# Altium schematic symbol library MDL.SchLib: 19 symbols
Pins are listed as number, name and electrical type; pins without a type are passive.

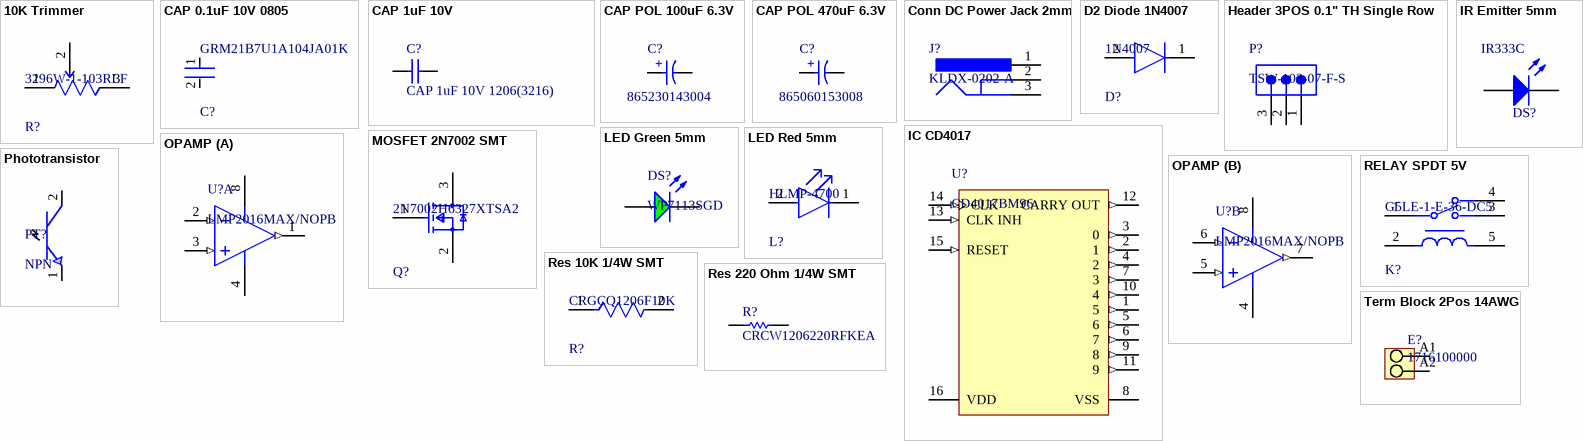
[diagram p0: symbols 10K Trimmer to Term Block 2Pos 14AWG]

## 10K Trimmer
designator R?, comment 3296W-1-103RLF
TRIMMER 10K OHM 0.5W PC PIN TOP; Resistance: 10kR; Temperature Coefficient: 100ppm/°C; Power Rating: 500mW; Tolerance: 10%; Number of Turns: 25; Width: 0.19inch; Termination: Pin; Radiation Hardening: No; Contact Plating: Tin; Composition: Cermet; Length: 9.53mm; Height: 0.395inch; Depth: 4.83mm; REACH SVHC: No SVHC; Weight: 0.03oz; Min Operating Temperature: -55°C; Military Standard: Not; Max Operating Temperature: 125°C; Packaging: Tape and Reel; Package Quantity: 1; Taper: Linear; Max Power Dissipation: 500mW; Mount: Through Hole
footprint FP-3296W-MFG
pins: 1 CCW, 2 WIPER, 3 CW

## CAP 0.1uF 10V 0805
designator C?, comment GRM21B7U1A104JA01K
Chip Multilayer Ceramic Capacitors for General Purpose, 0805, 0.10uF, U2J, -750ppm/°C, 5%, 10V; Capacitance: 100nF; Dielectric: U2J; Voltage Rating (DC): 10V; Thickness: 1.25mm; Width: 1.25mm; Length: 2mm; Case/Package: 0805; Tolerance: 5%
footprint FP-GRM21B-0_1-MFG
footprint FP-GRM21B-0_1-IPC_B
footprint FP-GRM21B-0_1-IPC_C
footprint FP-GRM21B-0_1-IPC_A
pins: 1, 2

## CAP 1uF 10V
designator C?, comment CAP 1uF 10V 1206(3216)
CAP 1uF 10V ±5% 1206 (3216 Metric) Thickness 1.3mm SMD; Case-EIA: 1206; Tolerance: Â±5%; Case-Metric: 3216; Value: 1uF; Technology: SMT; Rated Voltage: 10 V; Max Thickness: 1.3 mm
footprint CAPC1206(3216)130_L (Chip Capacitor, Body 3.2x1.6mm, Height 1.3mm, IPC High Density)
footprint CAPC1206(3216)130_N (Chip Capacitor, Body 3.2x1.6mm, Height 1.3mm, IPC Medium Density)
footprint CAPC1206(3216)130_M (Chip Capacitor, Body 3.2x1.6mm, Height 1.3mm, IPC Low Density)
pins: 1, 2
1 alternate drawing of the same symbol

## CAP POL 100uF 6.3V
designator C?, comment 865230143004
WCAP-AS5H Aluminum Electrolytic Capacitors; Insulation Resistance: 1MΩ; Capacitance: 100µF; Voltage Rating: 6.3V; Life (Hours): 5000hours; Ripple Current: 60mA; Polarity: Polar; Tolerance: 20%; Leakage Current: 6.3µA; RoHS: Compliant; Max Operating Temperature: 105°C; Length: 5.5mm; Height - Seated (Max): 5.5118mm; REACH SVHC: Unknown; Mount: Surface Mount; Voltage Rating (DC): 6.3V; Ripple Current (AC): 60mA; Width: 6.6mm; Height: 5.5mm; Diameter: 6.3mm; Case/Package: Radial; Min Operating Temperature: -40°C
footprint WCAP-AS5H_D6.3H5.5 (Aluminum Electrolytic Capacitors, 6.3x5.5mm)
pins: 1 P, 2 N
text: +

## CAP POL 470uF 6.3V
designator C?, comment 865060153008
WCAP-ASLL Aluminum Electrolytic Capacitors; Capacitance: 470µF; Polarity: Polar; Impedance: 170mΩ; Voltage Rating (DC): 6.3V; Life (Hours): 5000hours; Leakage Current: 29.61µA; Ripple Current (AC): 500mA; Insulation Resistance: 212.766kΩ; ESR (Equivalent Series Resistance): 124.302mΩ; Tolerance: 20%; Case/Package: Radial; Max Operating Temperature: 105°C; Mount: Surface Mount; Min Operating Temperature: -55°C; Voltage Rating: 6.3V; Length: 10.5mm; RoHS: Compliant; Height: 10.5mm; Height - Seated (Max): 10.4902mm; Ripple Current: 500mA; REACH SVHC: Unknown; Diameter: 8mm
footprint WCAP-ASLL_D8H10.5 (Aluminium Electrolytic V-Chip SMT Capacitors, 8x10.5mm)
pins: 1 P, 2 N
text: +

## Conn DC Power Jack 2mm
designator J?, comment KLDX-0202-A
DC Power Jack, 24 V, 3.5 A, -25 to 85 degC, 3-Pin THD, RoHS; Manufacturer: Kycon; Voltage Rating: 24 V; Current Rating: 3.5 A; Height: 10.8 mm; Length: 9.2 mm; Pins: 2; Housing Material: PBT; Connector Type: Power; ComponentLink2URL: http://www.kycon.com/Pub_Eng_Draw/KLDX-0202-X.PDF; PackageDescription: 3-Pin Through Hole Device, Body 14.5 x 9 mm; Max Operating Temperature: 85 degC; Min Operating Temperature: -25 degC; PackageReference: KLDX-0202-A; Contact Gender: Female; Package Quantity: 500; Mount: Through Hole; Colour: Black; Contact Plating: Tin; DatasheetVersion: Rev. D3, 06/2013; ComponentLink2Description: Datasheet; RoHSCompliant: true; Mounting Technology: Through Hole; ComponentLink1Description: Manufacturer URL; Contact Material: Brass; ComponentLink1URL: http://www.kycon.com/
footprint KYCN-KLDX-0202-A_V (Power Jack, 3-Leads, Body 14.5x9mm)
pins: 1, 2, 3

## D2 Diode 1N4007
designator D?, comment 1N4007
Rectifier diode 1000 V 1 A DO-41, ,; Manufacturer: Diotec; Max Surge Forward Current: 27A; Forward Current: 1A; Max Junction Temp: +175°C; Reverse Voltage: 1000V; Value: 15pF; Peak Reverse Current: 5uA; Category: Diode; Temperature Range Low: -50°C; Automotive: No; Temperature: -50°C to +175°C; Lead Free: Yes; ComponentLink2Description: Datasheet; Max Repetitive Reverse Voltage: 1000V; ComponentLink2URL: https://datasheet.octopart.com/1N4007-Diotec-datasheet-62346875.pdf; Manufacturer Part Number: 1N4007; Device Class L3: Rectifier Diodes; Height: 2.8mm; Octopart: https://octopart.com/1n4007-diotec-4040411; Package: 1N4007; Temperature Range High: +175°C; Device Class L1: Discrete Semiconductors; Device Class L2: Diodes; RoHS: TRUE; Capacitance: 15pF; Ipc Land Pattern Name: DIOAD888W100L520D280
footprint FP-1N4007-MFG
pins: 1 C, 2 A

## Header 3POS 0.1" TH Single Row
designator P?, comment TSW-103-07-F-S
0.025" SQ Post Header, Through-hole, Vertical, -55 to 125 degC, 2.54 mm Pitch, 3-Pin, Male, RoHS; Manufacturer: Samtec; Pitch: 2.54 mm; DatasheetVersion: F-214; ComponentLink1Description: Manufacturer URL; ComponentLink3URL: http://www.samtec.com/documents/webfiles/cpdf/TSW-XXX-XX-XXX-X-XX-XXX-MKT.pdf; Mounting Technology: Through-hole; PackageDescription: .025[0.64] SQ. Post Terminal Strip Assembly; Temperature Range: -55 to 125 degC; ComponentLink3Description: Package Specification; Orientation: Vertical; PartNumber: TSW-103-07-F-S; RoHS: True; PackageVersion: DM, 8/1988; ComponentLink2Description: Datasheet; ComponentLink1URL: http://www.samtec.com; ComponentLink2URL: http://www.samtec.com/documents/webfiles/pdf/TSW_TH.PDF; PackageReference: TSW-103-07-X-S
footprint SMTC-TSW-103-07-X-S (.025 SQ Post Terminal Strip Assembly, 1x3 Pins, Vertical, 2.54mm Pitch, Male)
pins: 1, 2, 3

## IC CD4017
designator U?, comment CD4017BM96
CMOS Decade Counter with 10 Decoded Outputs, D0016A, LARGE T&R; Manufacturer: Texas Instruments; Technology Family: CD4000; Schmitt Trigger: No; VCC(Max)(V): 18; Inputs: 1; tpd @ Nom Voltage(Max)(ns): 270; Rating: Military; Bits(#): 10; Output Drive (IOL/IOH)(Max)(mA): 1.5/-1.5; ICC @ Nom Voltage(Max)(mA): 0.03; F @ Nom Voltage(Max)(Mhz): 8; VCC(Min)(V): 3; Output Type: CMOS; Operating Temperature Range(C): -55 to 125; Generic Part Number: CD4017B; Type: Decade; DatasheetVersion: SCHS027C; Input Type: CMOS; Function: Counter; PackageReference: D0016A; Code_JEDEC: MS-012 variation AC; Voltage(Nom)(V): 10
footprint D0016A_N (SOIC, 16-Leads, Body 10x4mm, Pitch 1.27mm, IPC Medium Density)
footprint D0016A_L (SOIC, 16-Leads, Body 10x4mm, Pitch 1.27mm, IPC High Density)
footprint D0016A_M (SOIC, 16-Leads, Body 10x4mm, Pitch 1.27mm, IPC Low Density)
pins: 1 5 (out), 2 1 (out), 3 0 (out), 4 2 (out), 5 6 (out), 6 7 (out), 7 3 (out), 8 VSS (power), 9 8 (out), 10 4 (out), 11 9 (out), 12 CARRY OUT (out), 13 CLK INH (in), 14 CLK (in), 15 RESET (in), 16 VDD (power)

## IR Emitter 5mm
designator DS?, comment IR333C
Infrared LED, 1.2 V, -40 to 85 degC, 2-Pin Radial, RoHS, Bulk; Manufacturer: Everlight Electronics; Viewing Angle: 40deg; Power Rating: 150mW; Maximum Forward Current: 1A; Brand: Everlight; Operating Voltage: 1.2V; Wavelength: 940nm; Radiant Intensity: 12mW/sr; Lens Shape: Dome; Forward Current: 20mA; Datasheet URL: http://www.everlight.com/file/ProductFile/201407061521223111.pdf; Manufacturer URL: http://www.everlight.com/; Mounting Style: ThroughHole; Factory Pack Quantity: 500; RoHS: Details; Illumination Color: Infrared; Package / Case: T-13/4; Forward Voltage: 1.2V; Minimum Operating Temperature: -40C; Product Category: InfraredEmitters; Datasheet Version: May-13; Maximum Operating Temperature: +85C
footprint EVRL-IR333C (TH, 2-Leads, Radius 2.95mm, Pitch 2.54mm)
pins: 1 A, 2 K

## LED Green 5mm
designator DS?, comment WP7113SGD
LED Green, 62.5 mW, 25 mA, -40 to 85 degC, 2-Pin THD, RoHS, Bulk; Manufacturer: Kingbright; Viewing Angle: 30degrees; Lens Style: Tinted; Test Current: 20mA; Forward Voltage: 2.2V; Wavelength: 568nm; Luminous Intensity: 40mcd; Package Reference: WP7113SGD; Colour: Green; Lead Free: LeadFree; Packaging: Bulk; RoHSCompliant: true; Package Quantity: 1000; Illumination Colour: Green; Case/Package: Radial; Datasheet URL: http://www.kingbrightusa.com/images/catalog/SPEC/WP7113SGD.pdf; Dominant Wavelength: 568nm; Datasheet Version: Rev. 6B, 01/2015; Package Description: 2-Pin Through Hole Device, Dia 5.9 mm, Body Length 8.6 mm; Height: 8.6mm
footprint KING-WP7113SGD_V (THD, 2-Leads, Dia 5.9mm, Body Length 8.6mm)
pins: 1 A, 2 K

## LED Red 5mm
designator L?, comment HLMP-4700
LED RED DIFFUSED T-1 3/4 T/H; Manufacturer: Broadcom; Luminous Intensity: 2.3mcd; Peak Emmision Wavelength: 635nm; Forward Voltage: 1.7V; Viewing Angle: 50°; Led Orientation: Straight; Reverse Voltage: 5V; Forward Current: 2mA; Power Dissipation: 14mW; Wavelength: 626nm; Digikey Description: LED RED DIFFUSED T-1 3/4 T/H; Device Class L3: unset; Temperature Range Low: -40°C; Temperature Range High: +100°C; RoHS: TRUE; Package: HLMP-4700; Octopart: https://octopart.com/hlmp-4700-broadcom-71130526; Automotive: No; ComponentLink2URL: https://docs.broadcom.com/docs/AV02-1557EN; Colour: Red; Temperature: -40°C to +100°C; Lead Free: Yes; Category: Diode; ComponentLink2Description: Datasheet; Manufacturer Part Number: HLMP-4700; Device Class L1: Optoelectronics; Device Class L2: LEDs; Mouser Description: LED; Red; 2.3mcd; 0.24In.Dia.; T-1-3/4; 500mA; 1.7V; 635nm; 50deg; 5V; 24mW; -55degC;
footprint FP-HLMP-4700-MFG
pins: 1 C, 2 A

## MOSFET 2N7002 SMT
designator Q?, comment 2N7002H6327XTSA2
MOSFET N-CH 60V 0.3A SOT23; Rise Time: 3.3ns; Input Capacitance: 20pF; Rds On Max: 3R; Gate to Source Voltage (Vgs): 20V; Continuous Drain Current (ID): 300mA; Max Power Dissipation: 500mW; Packaging: Tape and Reel; Mount: Surface Mount; Case/Package: SOT-23; Drain to Source Voltage (Vdss): 60V; Min Operating Temperature: -55°C; Halogen Free: Halogen Free; Max Dual Supply Voltage: 60V; Number of Pins: 3; Lead Free: Lead Free; Max Operating Temperature: 150°C
footprint FP-PG-SOT23-3-IPC_B
footprint FP-PG-SOT23-3-IPC_C
footprint FP-PG-SOT23-3-MFG
footprint FP-PG-SOT23-3-IPC_A
pins: 1 gate, 2 source, 3 drain

## OPAMP
designator U?, comment LMP2016MAX/NOPB
High Precision, Rail-to-Rail Output Operational Amplifier, 8-pin Narrow SOIC, Pb-Free; Manufacturer: National Semiconductor; PowerWise: N; PackageTopMarking: NSZXTT*LMP20*16MA; CompType: Amplifiers; PackageVersion: revM, May-2009; PackageDescription: SOIC Narrow, 4.9 x 3.9 x 1.45mm, 8 Lead, 1.27mm Pitch; ComponentLink1URL: http://www.national.com/ds/LM/LMP2016.pdf; PackageReference: M08A; Code_JEDEC: MS-012-AA; Code_IPC: SOIC127P600-8; RoHS: Y; ComponentLink1Description: LMP2016 Datasheet; PinCount: 8; RevisionNote: Component URLs added; DatasheetVersion: Jan-2010; ComponentLink3URL: http://www.national.com/packaging/folders/m08a.html; ComponentLink2URL: http://www.national.com/pf/LM/LMP2016.html; ComponentLink3Description: M08A Package Page; ComponentLink2Description: LMP2016 Web Page
footprint M08A_M (SOIC, 8-Leads, Body 4.9x3.9mm, Pitch 1.27mm, IPC Low Density)
footprint M08A_L (SOIC, 8-Leads, Body 4.9x3.9mm, Pitch 1.27mm, IPC High Density)
footprint M08A_N (SOIC, 8-Leads, Body 4.9x3.9mm, Pitch 1.27mm, IPC Medium Density)
pins on every part: 4 V- (power), 8 V+ (power)
part A pins: 1 OUT1 (out), 2 IN1- (in), 3 IN1+ (in)
part B pins: 5 IN2+ (in), 6 IN2- (in), 7 OUT2 (out)

## Phototransistor
designator PT?, comment NPN
iber Optic Transceivers; PT334-6B; EVERLIGHT; 2; 940 nm; Through Hole; Yes; Manufacturer: Everlight; Manufacturer Part Number: PT334-6B
footprint PhotoTr_PT3347-6B
pins: 1 E (oe), 2 C (oc)

## RELAY SPDT 5V
designator K?, comment G5LE-1-E-36-DC5
RELAY GEN PURPOSE SPDT 16A 5V; Coil Type: Non-Latching; Relay Type: General Purpose; Power Consumption: 400mW; Coil Resistance: 70R; Release Time: 5ms; Coil Current: 72mA; Coil Power: 360mW; Operate Time: 10ms; Coil Voltage (DC): 5V; Max Operating Temperature: 85°C; Contact Material: Tin; Package Quantity: 100; Throw Configuration: SPDT; Termination: PC Pin; Series: G5LE-E; Packaging: Tray; Min Operating Temperature: -40°C; Mount: Through Hole; Contact Current Rating: 16A
footprint FP-G5LE-1-E-36-DC5-MFG
pins: 1, 2, 3, 4, 5

## Res 10K 1/4W SMT
designator R?, comment CRGCQ1206F10K
CRGCQ1206 10KΩ 0.25W 1% ±100ppm/°C 200V; Manufacturer: TE Connectivity; Tolerance: 0.01; Automotive Grade: Grade 913; Value: 10KΩ; Automotive: Yes; Temperature: -55°C to +155°C; RoHS: TRUE; Series: CRGCQ; Lead Free: Yes; Device Class L3: Chip SMD Resistors; Package: CRGCQ1206; ComponentLink2URL: https://www.te.com/commerce/DocumentDelivery/DDEController?Action=showdoc&DocId=Data+Sheet%7F1773204-3%7F1%7Fpdf%7FEnglish%7FENG_DS_1773204-3_1.pdf%7F4-2176347-922; Ipc Land Pattern Name: RESC310155X55; Composition: Thick Film; Voltage Rating: 200V; Device Class L1: Passive Components; Temperature Range Low: -55°C; Resistance: 10KΩ; Height: 0.65mm; Power Rating: 0.25W; Device Class L2: Resistors; Temperature Range High: +155°C; Octopart: https://octopart.com/crgcq1206f10k-te+connectivity-91018244; Ambient Temperature Range High: +70°C; ComponentLink2Description: Datasheet; Temperature Coefficient: ±100ppm/°C; Manufacturer Part Number: CRGCQ1206F10K; Category: Res
footprint FP-CRGCQ1206-IPC_C
footprint FP-CRGCQ1206-IPC_A
footprint FP-CRGCQ1206-IPC_B
pins: 1, 2

## Res 220 Ohm 1/4W SMT
designator R?, comment CRCW1206220RFKEA
Manufacturer: Vishay Dale; Part Number: CRCW1206220RFKEA
footprint RESC3216X60X45ML10T20 (Chip Resistor, 2-Leads, Body 3.20x1.60mm, IPC Low Density)
footprint RESC3216X60X45LL10T20 (Chip Resistor, 2-Leads, Body 3.20x1.60mm, IPC High Density)
footprint RESC3216X60X45NL10T20 (Chip Resistor, 2-Leads, Body 3.20x1.60mm, IPC Medium Density)
pins: 1, 2
1 alternate drawing of the same symbol

## Term Block 2Pos 14AWG
designator E?, comment 1716100000
OMNIMATE Signal - series LM; Manufacturer: Weidmueller; Pitch_inch: 0,2 inch; Solid_max_H05_07_V_U: 2,5 mm²; Rated_voltage_for_surge_voltage_class_pollution_degree_II_2: 630 V; Rated_voltage_use_group_B_UL_1059: 300 V; Pitch_mm: 5,08 mm; Solder_pin_length_mm: 3,5 mm; Wire_cross_section_AWG_min_UL_1059: AWG 24; Wire_cross_section_AWG_max_UL_1059: AWG 14; No_of_poles: 2; Contact_surface: tinned; Short_text_for_material: LM 5.08/02/180 3.5SN OR BX; UL_94_flammability_rating: V-0; Rated_current_use_group_B_UL_1059: 15 A; Mounting_onto_the_PCB: Solder connection; Solid_min_H05_07_V_U: 0,2 mm²; Contact_material: Cu-Leg; Insulating_material: Wemid (PA); Side_termination_characteristic: closed side; PartNumber: 1716100000; ComponentLink2URL: http://catalog.weidmueller.com/catalog/Start.do?localeId=en&ObjectID=1716100000; ComponentLink1URL: http://www.weidmueller.com/; ComponentLink1Description: Manufacturer URL; Qty: 500 PCS; Colour: Orange; Packaging: Box; ComponentLink2Description: URL Link1; PackageReference: LM_5_08_180_02; Revision: V1
footprint LM_5_08_180_02 (OMNIMATE Signal - Serie LM  LM 5.08/02/180 3.5)
pins: A1, A2
1 alternate drawing of the same symbol